# EAGLE library part WE-SL3_744253XXX (library WE-SL3)
WE-SL3 SMT Common Mode Line Filter Characteristics Low profile only 2.5 mm High impedance up to 5000 Ω High current up to 700 mA Rated voltage: 80 VDC (42 VAC) Flammability corresponding to UL 94 V-0 Climatic category 40/125/21 Applications Drossel für Signal- und Datenleitung Power supply system Signal and sensor lines CAN Suppression of common mode noise Trifilar version for: - Power Over Ethernet (PoE) - Audio frequency (AF) noise <https://katalog.we-online.com/media/images/v2/o14853v209%20Family_WE-SL3.jpg> Details see: https://katalog.we-online.com/en/pbs/WE-SL3 Updated by Ella Wu 2019-01-11 2019 (C) Würth Elektronik
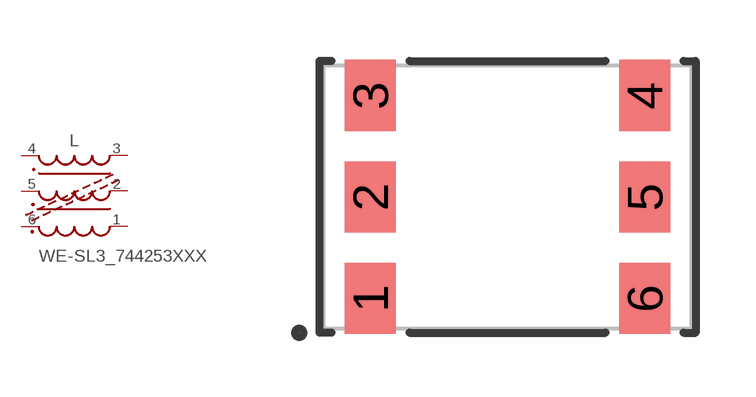
[diagram p0: symbol with the pads of WE-SL3_744253XXX; footprint WE-SL3_744253XXX]

Designator prefix L

## WE-SL3_744253XXX_744253101 (DATASHEET-URL: https://katalog.we-online.com/pbs/datasheet/744253101.pdf; IR: 450mA; LS: 94nH; MOUNT: SMT; PART-NUMBER: 744253101; RDC: 0.45Ohm; VALUE: 100uH; VR: 80V; VT: 500 V (AC); ZMAX: 5000Ohm), WE-SL3_744253XXX_744253200 (DATASHEET-URL: https://katalog.we-online.com/pbs/datasheet/744253200.pdf; IR: 500mA; LS: 57nH; MOUNT: SMT; PART-NUMBER: 744253200; RDC: 0.16Ohm; VALUE: 20uH; VR: 80V; VT: 500 V (AC); ZMAX: 1250Ohm)  [WE-SL3_744253XXX]
1  1  pas
2  2  pas
3  3  pas
4  4  pas
5  5  pas
6  6  pas

## Footprint WE-SL3_744253XXX (pad centres in mm)
WE-SL3 SMT Common Mode Line Filter
smd 1.27 x 1.78: 1 -3.43,-2.54; 2 -3.43,0; 3 -3.43,2.54; 4 3.43,2.54; 5 3.43,0; 6 3.43,-2.54